# Altium schematic symbol library LM339N.SchLib: 2 symbols
Pins are listed as number, name and electrical type; pins without a type are passive.

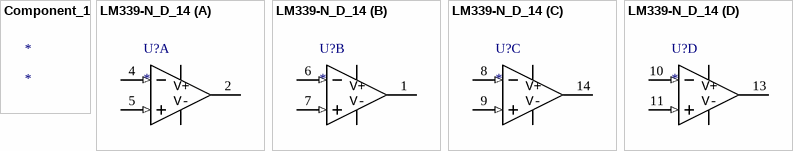
[diagram p0: symbols Component_1 to LM339-N_D_14]

## Component_1
designator *

## LM339-N_D_14
designator U?
Imported; PartNumber: LM339AM; Manufacturer: NationalSemiconductor; Characteristics: LM339AMLowPowerLowOffsetVoltageQuadComparator; CompType: ComparatorIC; Value: LM339AM; TaMin_C: 00; TaMax_C: 700; ComponentLink1DescBC: LM339Datasheet; ComponentLink2DescA4: LM339WebPage; ComponentLink3DescAC: M14APackageWebPage; SymbolVersion: 2008-07-09; PackageDescription: 14LeadSOIC; PackageReference: M14A_L; RoHS: O; ComponentLink1URL: http//wwwnationalcom/ds/LM/LM339pdf; ComponentLink2URL: http//wwwnationalcom/pf/LM/LM339html; ComponentLink3URL: http//wwwnationalcom/packaging/folders/m14ahtml; Version: B1608; LatestRevisionDate: 2009-03-16; LatestRevisionNote: MassUpdate; Publisher: NationalSemiconductor; Published: 2009-03-16
footprint M14A
part A pins: 2 OUT, 4 IN- (in), 5 IN+ (in)
part B pins: 1 OUT, 6 IN- (in), 7 IN+ (in)
part C pins: 8 IN- (in), 9 IN+ (in), 14 OUT
part D pins: 10 IN- (in), 11 IN+ (in), 13 OUT
part A text: V+; V-
part B text: V+; V-
part C text: V+; V-
part D text: V+; V-